# Altium footprint library OpAmp_Pcb.PcbLib: 26 footprints (part 1 of 2)
Each footprint in its own frame and in the unit in brackets; x right, y up, seen from the top. Pads: shape width x height; smd on the part's side, far side on the other; paste and mask are expansions set on the pad; w line width, h text height; cw(c..) or ccw(c..) is an arc to the next point about the centre after c.
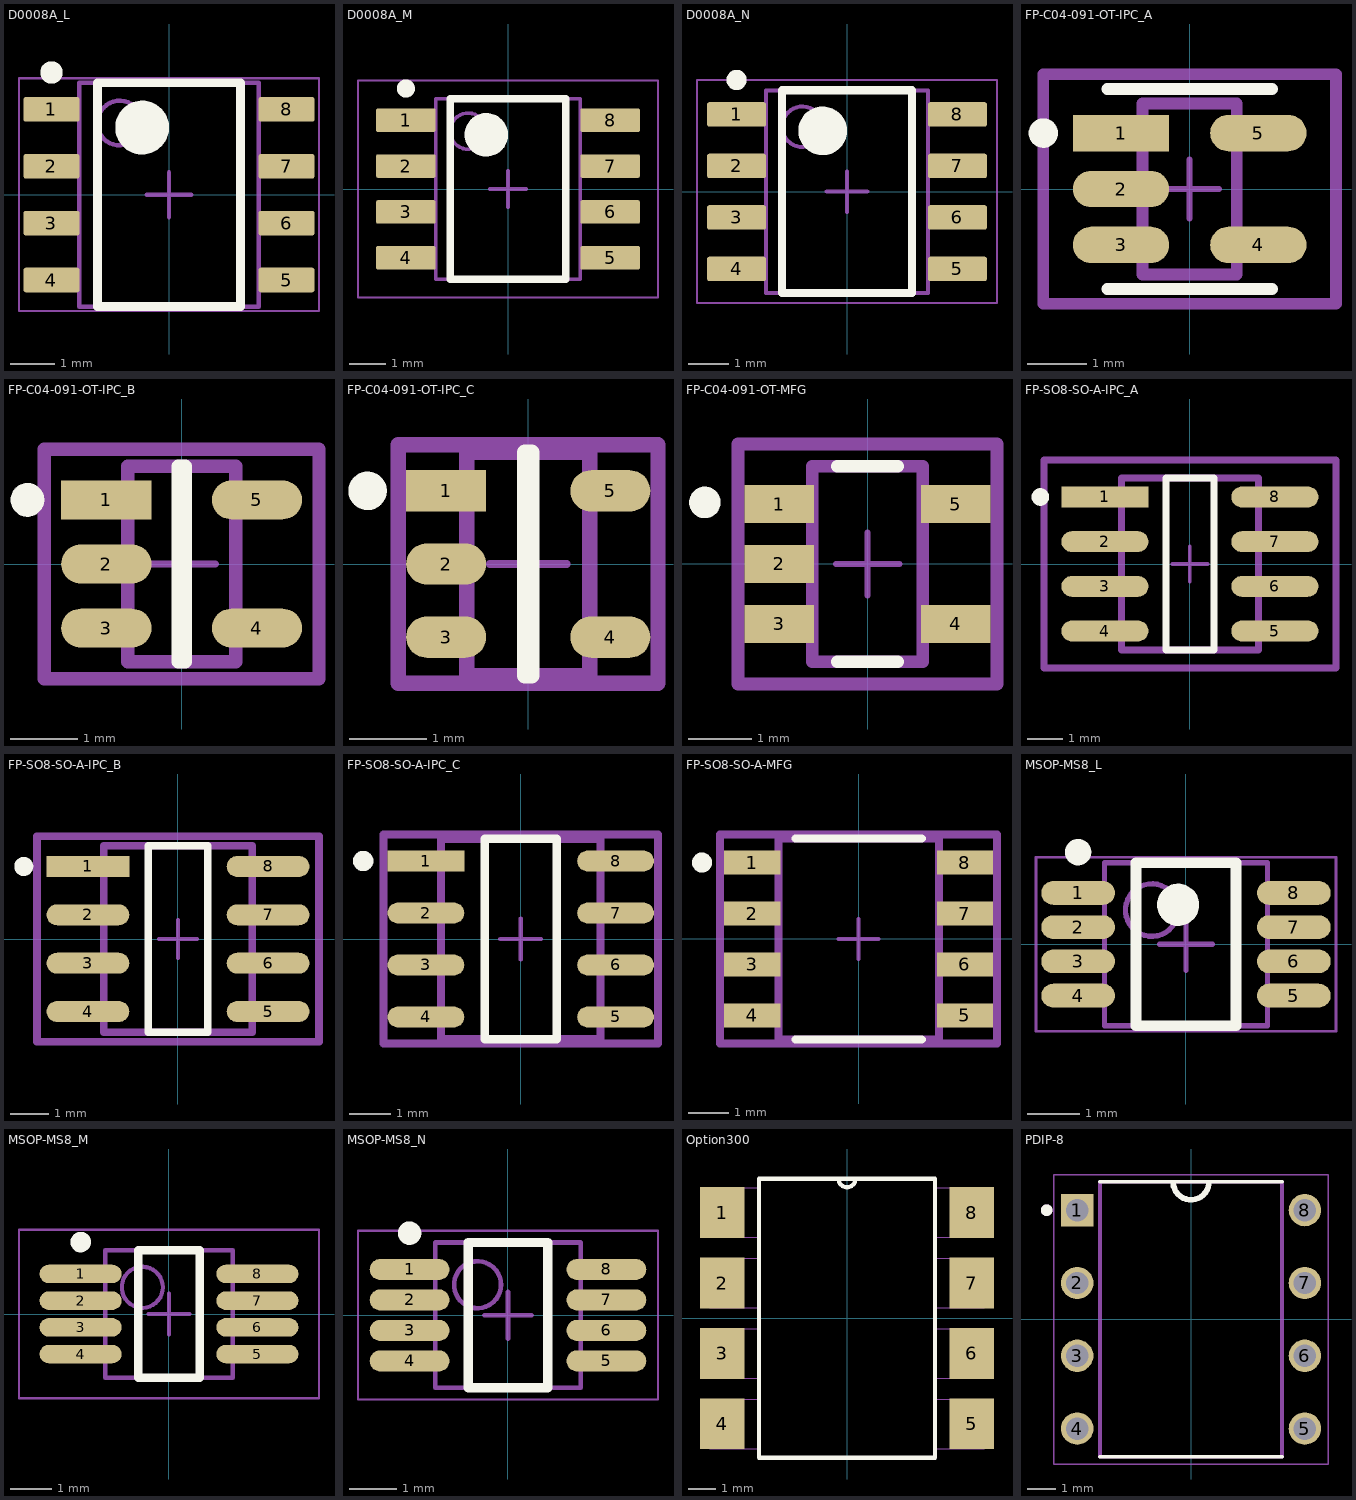
[diagram p0: the footprints below, top view; thin cyan lines are the x and y axes]

## D0008A_L [mm] "SOIC, 8-Leads, Body 5x4mm, Pitch 1.27mm, IPC High Density"
height 1.75
pads (8):
  rrect18% 1.25x0.55 smd: 1(-2.625,1.905) 2(-2.625,0.635) 3(-2.625,-0.635) 4(-2.625,-1.905) 5(2.625,-1.905) 6(2.625,-0.635) 7(2.625,0.635) 8(2.625,1.905)
Top Overlay:
  circle w0.25: c-2.625,2.73 r0.125
  circle w0.6: c-0.6,1.5 r0.3
  lines w0.2: -1.6,-2.5 -1.6,2.5 1.6,2.5 1.6,-2.5 -1.6,-2.5
Mechanical 1:
  text ".Designator" at -1.397,-0.254 h0.6
Mechanical 13:
  circle w0.1: c-1.1,1.6 r0.5
  lines w0.1: -2,-2.5 -2,2.5 2,2.5 2,-2.5 -2,-2.5
Mechanical 15:
  lines w0.05: -3.35,-2.6 -3.35,2.6 3.35,2.6 3.35,-2.6 -3.35,-2.6
  lines w0.1: -0.5,0 0.5,0 ; 0,-0.5 0,0.5
3D body "SOIC-8akaD0008AakaM08A.stp": height 1.63, standoff 0, extent -3,-2.45 3,2.45

## D0008A_M [mm] "SOIC, 8-Leads, Body 5x4mm, Pitch 1.27mm, IPC Low Density"
height 1.75
pads (8):
  rrect15% 1.65x0.65 smd: 1(-2.825,1.905) 2(-2.825,0.635) 3(-2.825,-0.635) 4(-2.825,-1.905) 5(2.825,-1.905) 6(2.825,-0.635) 7(2.825,0.635) 8(2.825,1.905)
Top Overlay:
  circle w0.25: c-2.825,2.78 r0.125
  circle w0.6: c-0.6,1.5 r0.3
  lines w0.2: -1.6,-2.5 -1.6,2.5 1.6,2.5 1.6,-2.5 -1.6,-2.5
Mechanical 1:
  text ".Designator" at -1.397,-0.254 h0.6
Mechanical 13:
  circle w0.1: c-1.1,1.6 r0.5
  lines w0.1: -2,-2.5 -2,2.5 2,2.5 2,-2.5 -2,-2.5
Mechanical 15:
  lines w0.05: -4.15,-3 -4.15,3 4.15,3 4.15,-3 -4.15,-3
  lines w0.1: -0.5,0 0.5,0 ; 0,-0.5 0,0.5
3D body "SOIC-8akaD0008AakaM08A.stp": height 1.63, standoff 0, extent -3,-2.45 3,2.45

## D0008A_N [mm] "SOIC, 8-Leads, Body 5x4mm, Pitch 1.27mm, IPC Medium Density"
height 1.75
pads (8):
  rrect17% 1.45x0.6 smd: 1(-2.725,1.905) 2(-2.725,0.635) 3(-2.725,-0.635) 4(-2.725,-1.905) 5(2.725,-1.905) 6(2.725,-0.635) 7(2.725,0.635) 8(2.725,1.905)
Top Overlay:
  circle w0.25: c-2.725,2.755 r0.125
  circle w0.6: c-0.6,1.5 r0.3
  lines w0.2: -1.6,-2.5 -1.6,2.5 1.6,2.5 1.6,-2.5 -1.6,-2.5
Mechanical 1:
  text ".Designator" at -1.397,-0.254 h0.6
Mechanical 13:
  circle w0.1: c-1.1,1.6 r0.5
  lines w0.1: -2,-2.5 -2,2.5 2,2.5 2,-2.5 -2,-2.5
Mechanical 15:
  lines w0.05: -3.7,-2.75 -3.7,2.75 3.7,2.75 3.7,-2.75 -3.7,-2.75
  lines w0.1: -0.5,0 0.5,0 ; 0,-0.5 0,0.5
3D body "SOIC-8akaD0008AakaM08A.stp": height 1.63, standoff 0, extent -3,-2.45 3,2.45

## FP-C04-091-OT-IPC_A [mil]
pads (5):
  rect 64.5x24.33 smd paste+0 mask+0: 1(-45.91,37.4)
  rrect100% 64.5x24.33 smd paste+0 mask+0: 2(-45.91,0) 3(-45.91,-37.4) 4(45.91,-37.4) 5(45.91,37.4)
Top Overlay:
  circle w9.84: c-97.85,37.4 r4.92
  lines w7.87: -55.12,-66.93 55.12,-66.93 ; -55.12,66.93 55.12,66.93
Mechanical 5:
  lines w7.87: -97.85,-76.77 -97.85,76.77 97.85,76.77 97.85,-76.77 -97.85,-76.77
  text ".Designator" at 0,7.39 h39.37
Mechanical 13:
  lines w7.87: -31.5,-57.09 -31.5,57.09 31.5,57.09 31.5,-57.09 -31.5,-57.09
Mechanical 15:
  lines w7.87: -97.85,-76.77 -97.85,76.77 97.85,76.77 97.85,-76.77 -97.85,-76.77
Mechanical 16:
  lines w3.94: -19.68,0 19.68,0 ; 0,-19.68 0,19.68
3D body "SOT23-5.stp": height 43.8, standoff -2.46, extent -55.12,-58.07 55.12,59.55

## FP-C04-091-OT-IPC_B [mm]
pads (5):
  rect 1.338x0.578 smd paste+0 mask+0: 1(-1.116,0.95)
  rrect100% 1.338x0.578 smd paste+0 mask+0: 2(-1.116,0) 3(-1.116,-0.95) 4(1.116,-0.95) 5(1.116,0.95)
Top Overlay:
  circle w0.25: c-2.285,0.95 r0.125
  lines w0.2: -0.053,-1.45 -0.053,1.45 0.053,1.45 0.053,-1.45 -0.053,-1.45
Mechanical 5:
  lines w0.2: -2.035,-1.7 2.035,-1.7 2.035,1.7 -2.035,1.7 -2.035,-1.7
  text ".Designator" at 0,0.188 h1
Mechanical 13:
  lines w0.2: -0.8,-1.45 0.8,-1.45 0.8,1.45 -0.8,1.45 -0.8,-1.45
Mechanical 15:
  lines w0.2: -2.035,-1.7 2.035,-1.7 2.035,1.7 -2.035,1.7 -2.035,-1.7
Mechanical 16:
  lines w0.1: -0.5,0 0.5,0 ; 0,-0.5 0,0.5
3D body "SOT23-5.stp": height 1.11, standoff -0.06, extent -1.425,-1.519 1.375,1.469

## FP-C04-091-OT-IPC_C [mm]
pads (5):
  rect 1.038x0.538 smd paste+0 mask+0: 1(-1.066,0.95)
  rrect100% 1.038x0.538 smd paste+0 mask+0: 2(-1.066,0) 3(-1.066,-0.95) 4(1.066,-0.95) 5(1.066,0.95)
Top Overlay:
  circle w0.25: c-2.085,0.95 r0.125
  lines w0.2: -0.047,-1.45 -0.047,1.45 0.047,1.45 0.047,-1.45 -0.047,-1.45
Mechanical 5:
  lines w0.2: -1.685,-1.55 -1.685,1.55 1.685,1.55 1.685,-1.55 -1.685,-1.55
  text ".Designator" at 0,0.188 h1
Mechanical 13:
  lines w0.2: -0.8,-1.45 -0.8,1.45 0.8,1.45 0.8,-1.45 -0.8,-1.45
Mechanical 15:
  lines w0.2: -1.685,-1.55 -1.685,1.55 1.685,1.55 1.685,-1.55 -1.685,-1.55
Mechanical 16:
  lines w0.1: -0.5,0 0.5,0 ; 0,-0.5 0,0.5
3D body "SOT23-5.stp": height 1.11, standoff -0.06, extent -1.425,-1.519 1.375,1.469

## FP-C04-091-OT-MFG [mm]
pads (5):
  rect 1.1x0.6 smd paste+0 mask+0: 1(-1.4,0.95) 2(-1.4,0) 3(-1.4,-0.95) 4(1.4,-0.95) 5(1.4,0.95)
Top Overlay:
  circle w0.25: c-2.575,0.975 r0.125
  lines w0.2: -0.475,-1.55 0.475,-1.55 ; -0.475,1.55 0.475,1.55
Mechanical 5:
  lines w0.2: -2.05,-1.9 -2.05,1.9 2.05,1.9 2.05,-1.9 -2.05,-1.9
  text ".Designator" at 0,-0.001 h1
Mechanical 13:
  lines w0.2: -0.875,-1.55 -0.875,1.55 0.875,1.55 0.875,-1.55 -0.875,-1.55
Mechanical 15:
  lines w0.2: -2.05,-1.9 -2.05,1.9 2.05,1.9 2.05,-1.9 -2.05,-1.9
Mechanical 16:
  lines w0.1: -0.5,0 0.5,0 ; 0,-0.5 0,0.5
3D body "SOT23-5.stp": height 1.11, standoff -0.06, extent -1.425,-1.519 1.375,1.469

## FP-SO8-SO-A-IPC_A [mm]
pads (8):
  rect 2.474x0.592 smd paste+0 mask+0: 1(-2.416,1.905)
  rrect100% 2.474x0.592 smd paste+0 mask+0: 2(-2.416,0.635) 3(-2.416,-0.635) 4(-2.416,-1.905) 5(2.416,-1.905) 6(2.416,-0.635) 7(2.416,0.635) 8(2.416,1.905)
Top Overlay:
  circle w0.25: c-4.25,1.905 r0.125
  lines w0.2: -0.679,-2.45 -0.679,2.45 0.679,2.45 0.679,-2.45 -0.679,-2.45
Mechanical 5:
  lines w0.2: -4.153,-2.95 -4.153,2.95 4.153,2.95 4.153,-2.95 -4.153,-2.95
  text ".Designator" at 0,0.188 h1
Mechanical 13:
  lines w0.2: -1.95,-2.45 -1.95,2.45 1.95,2.45 1.95,-2.45 -1.95,-2.45
Mechanical 15:
  lines w0.2: -4.153,-2.95 -4.153,2.95 4.153,2.95 4.153,-2.95 -4.153,-2.95
Mechanical 16:
  lines w0.1: -0.5,0 0.5,0 ; 0,-0.5 0,0.5
3D body "User Library-SOIC8LDS-4_9x3_9x1_27P.step": height 1.46, standoff -0.18, extent -3.009,-2.45 3.009,2.45

## FP-SO8-SO-A-IPC_B [mm]
pads (8):
  rect 2.174x0.552 smd paste+0 mask+0: 1(-2.366,1.905)
  rrect100% 2.174x0.552 smd paste+0 mask+0: 2(-2.366,0.635) 3(-2.366,-0.635) 4(-2.366,-1.905) 5(2.366,-1.905) 6(2.366,-0.635) 7(2.366,0.635) 8(2.366,1.905)
Top Overlay:
  circle w0.25: c-4.05,1.905 r0.125
  lines w0.2: -0.779,-2.45 0.779,-2.45 0.779,2.45 -0.779,2.45 -0.779,-2.45
Mechanical 5:
  lines w0.2: -3.703,-2.7 3.703,-2.7 3.703,2.7 -3.703,2.7 -3.703,-2.7
  text ".Designator" at 0,0.188 h1
Mechanical 13:
  lines w0.2: -1.95,-2.45 1.95,-2.45 1.95,2.45 -1.95,2.45 -1.95,-2.45
Mechanical 15:
  lines w0.2: -3.703,-2.7 3.703,-2.7 3.703,2.7 -3.703,2.7 -3.703,-2.7
Mechanical 16:
  lines w0.1: -0.5,0 0.5,0 ; 0,-0.5 0,0.5
3D body "User Library-SOIC8LDS-4_9x3_9x1_27P.step": height 1.46, standoff -0.18, extent -3.009,-2.45 3.009,2.45

## FP-SO8-SO-A-IPC_C [mm]
pads (8):
  rect 1.874x0.512 smd paste+0 mask+0: 1(-2.316,1.905)
  rrect100% 1.874x0.512 smd paste+0 mask+0: 2(-2.316,0.635) 3(-2.316,-0.635) 4(-2.316,-1.905) 5(2.316,-1.905) 6(2.316,-0.635) 7(2.316,0.635) 8(2.316,1.905)
Top Overlay:
  circle w0.25: c-3.85,1.905 r0.125
  lines w0.2: -0.879,-2.45 0.879,-2.45 0.879,2.45 -0.879,2.45 -0.879,-2.45
Mechanical 5:
  lines w0.2: -3.353,-2.55 3.353,-2.55 3.353,2.55 -3.353,2.55 -3.353,-2.55
  text ".Designator" at 0,0.188 h1
Mechanical 13:
  lines w0.2: -1.95,-2.45 1.95,-2.45 1.95,2.45 -1.95,2.45 -1.95,-2.45
Mechanical 15:
  lines w0.2: -3.353,-2.55 3.353,-2.55 3.353,2.55 -3.353,2.55 -3.353,-2.55
Mechanical 16:
  lines w0.1: -0.5,0 0.5,0 ; 0,-0.5 0,0.5
3D body "User Library-SOIC8LDS-4_9x3_9x1_27P.step": height 1.46, standoff -0.18, extent -3.009,-2.45 3.009,2.45

## FP-SO8-SO-A-MFG [mm]
pads (8):
  rect 1.4x0.6 smd paste+0 mask+0: 1(-2.65,1.905) 2(-2.65,0.635) 3(-2.65,-0.635) 4(-2.65,-1.905) 5(2.65,-1.905) 6(2.65,-0.635) 7(2.65,0.635) 8(2.65,1.905)
Top Overlay:
  circle w0.25: c-3.9,1.905 r0.125
  lines w0.2: -1.575,-2.5 1.575,-2.5 ; -1.575,2.5 1.575,2.5
Mechanical 5:
  lines w0.2: -3.45,-2.6 3.45,-2.6 3.45,2.6 -3.45,2.6 -3.45,-2.6
  text ".Designator" at 0,0.188 h1
Mechanical 13:
  lines w0.2: -2,-2.5 2,-2.5 2,2.5 -2,2.5 -2,-2.5
Mechanical 15:
  lines w0.2: -3.45,-2.6 3.45,-2.6 3.45,2.6 -3.45,2.6 -3.45,-2.6
Mechanical 16:
  lines w0.1: -0.5,0 0.5,0 ; 0,-0.5 0,0.5
3D body "User Library-SOIC8LDS-4_9x3_9x1_27P.step": height 1.46, standoff -0.18, extent -3.009,-2.45 3.009,2.45

## MSOP-MS8_L [mm] "TSOP, 8-Leads, Body 3x3mm, Pitch 0.65mm, IPC High Density"
height 1.1
pads (8):
  oval 1.4x0.45 smd: 1(-2.05,0.975) 2(-2.05,0.325) 3(-2.05,-0.325) 4(-2.05,-0.975) 5(2.05,-0.975) 6(2.05,-0.325) 7(2.05,0.325) 8(2.05,0.975)
Top Overlay:
  circle w0.4: c-0.15,0.75 r0.2
  circle w0.25: c-2.05,1.75 r0.125
  lines w0.2: -0.95,-1.55 0.95,-1.55 0.95,1.55 -0.95,1.55 -0.95,-1.55
Mechanical 13:
  circle w0.1: c-0.65,0.65 r0.5
  lines w0.1: -1.55,-1.55 1.55,-1.55 1.55,1.55 -1.55,1.55 -1.55,-1.55
Mechanical 15:
  lines w0.05: -2.85,-1.65 2.85,-1.65 2.85,1.65 -2.85,1.65 -2.85,-1.65
  lines w0.1: -0.5,0 0.5,0 ; 0,-0.5 0,0.5
3D body "User Library-MSOP-8 MSOP-8L.step": height 0.92, standoff -0.09, extent -2.46,-1.525 2.461,1.525

## MSOP-MS8_M [mm] "TSOP, 8-Leads, Body 3x3mm, Pitch 0.65mm, IPC Low Density"
height 1.1
pads (8):
  oval 2x0.45 smd: 1(-2.15,0.975) 2(-2.15,0.325) 3(-2.15,-0.325) 4(-2.15,-0.975) 5(2.15,-0.975) 6(2.15,-0.325) 7(2.15,0.325) 8(2.15,0.975)
Top Overlay:
  circle w0.25: c-2.15,1.75 r0.125
  lines w0.2: -0.75,-1.55 -0.75,1.55 0.75,1.55 0.75,-1.55 -0.75,-1.55
Mechanical 13:
  circle w0.1: c-0.65,0.65 r0.5
  lines w0.1: -1.55,-1.55 -1.55,1.55 1.55,1.55 1.55,-1.55 -1.55,-1.55
Mechanical 15:
  lines w0.05: -3.65,-2.05 -3.65,2.05 3.65,2.05 3.65,-2.05 -3.65,-2.05
  lines w0.1: -0.5,0 0.5,0 ; 0,-0.5 0,0.5
3D body "User Library-MSOP-8 MSOP-8L.step": height 0.92, standoff -0.09, extent -2.46,-1.525 2.46,1.525

## MSOP-MS8_N [mm] "TSOP, 8-Leads, Body 3x3mm, Pitch 0.65mm, IPC Medium Density"
height 1.1
pads (8):
  oval 1.7x0.45 smd: 1(-2.1,0.975) 2(-2.1,0.325) 3(-2.1,-0.325) 4(-2.1,-0.975) 5(2.1,-0.975) 6(2.1,-0.325) 7(2.1,0.325) 8(2.1,0.975)
Top Overlay:
  circle w0.25: c-2.1,1.75 r0.125
  lines w0.2: -0.85,-1.55 -0.85,1.55 0.85,1.55 0.85,-1.55 -0.85,-1.55
Mechanical 13:
  circle w0.1: c-0.65,0.65 r0.5
  lines w0.1: -1.55,-1.55 -1.55,1.55 1.55,1.55 1.55,-1.55 -1.55,-1.55
Mechanical 15:
  lines w0.05: -3.2,-1.8 -3.2,1.8 3.2,1.8 3.2,-1.8 -3.2,-1.8
  lines w0.1: -0.5,0 0.5,0 ; 0,-0.5 0,0.5
3D body "User Library-MSOP-8 MSOP-8L.step": height 0.92, standoff -0.09, extent -2.46,-1.525 2.46,1.525

## Option300 [mil]
pads (8):
  rect 63x72 smd: 1(-177,150) 2(-177,50) 3(-177,-50) 4(-177,-150) 5(177,-150) 6(177,-50) 7(177,50) 8(177,150)
Top Overlay:
  lines w6: -12,198 ccw(c0,198) 12,198 ; -12,198 -125,198 -125,-198 125,-198 125,198 12,198 ; -12,198 12,198
Mechanical 13:
  lines w0: -12,198 ccw(c0,198) 12,198 ; -12,198 -125,198 -125,-198 125,-198 125,198 12,198 ; -12,198 12,198 ; -195,-185 -125,-185 -125,-115 -195,-115 -195,-185 ; -195,-85 -125,-85 -125,-15 -195,-15 -195,-85 ; -195,15 -125,15 -125,85 -195,85 -195,15 ; -195,115 -125,115 -125,185 -195,185 -195,115 ; 125,-185 195,-185 195,-115 125,-115 125,-185 ; 125,-85 195,-85 195,-15 125,-15 125,-85 ; 125,15 195,15 195,85 125,85 125,15 ; 125,115 195,115 195,185 125,185 125,115
3D body "Option300.STEP": height 151.57, standoff 0, extent -199.99,-190.94 200.01,190.95

## PDIP-8 [mm]
pads (8):
  rect 1.13x1.13 hole 0.78: 1(-3.97,3.81)
  round 1.13 hole 0.78: 2(-3.97,1.27) 3(-3.97,-1.27) 4(-3.97,-3.81) 5(3.97,-3.81) 6(3.97,-1.27) 7(3.97,1.27) 8(3.97,3.81)
Top Overlay:
  circle w0.2: c-5.035,3.81 r0.1
  lines w0.127: -3.175,-4.795 3.175,-4.795 ; -3.175,4.795 3.175,4.795
  lines w0.2: -0.624,4.753 ccw(c0,4.795) 0.621,4.723
Mechanical 13:
  circle w0.2: c-5.035,3.81 r0.1
  lines w0.127: -3.175,-4.795 3.175,-4.795 3.175,4.795 -3.175,4.795 -3.175,-4.795
Mechanical 15:
  lines w0.05: -4.785,-5.045 4.785,-5.045 4.785,5.045 -4.785,5.045 -4.785,-5.045
3D body "PDIP-8_V2.step": height 5.1, standoff -3.18, extent -4.13,-5 4.13,5